# Altium schematic symbol library SCH - MCU - STM32 - ST MICROELECTRONICS STM32H742B(G-I)TX LQFP208.SchLib: 1 symbol
Pins are listed as number, name and electrical type; pins without a type are passive.

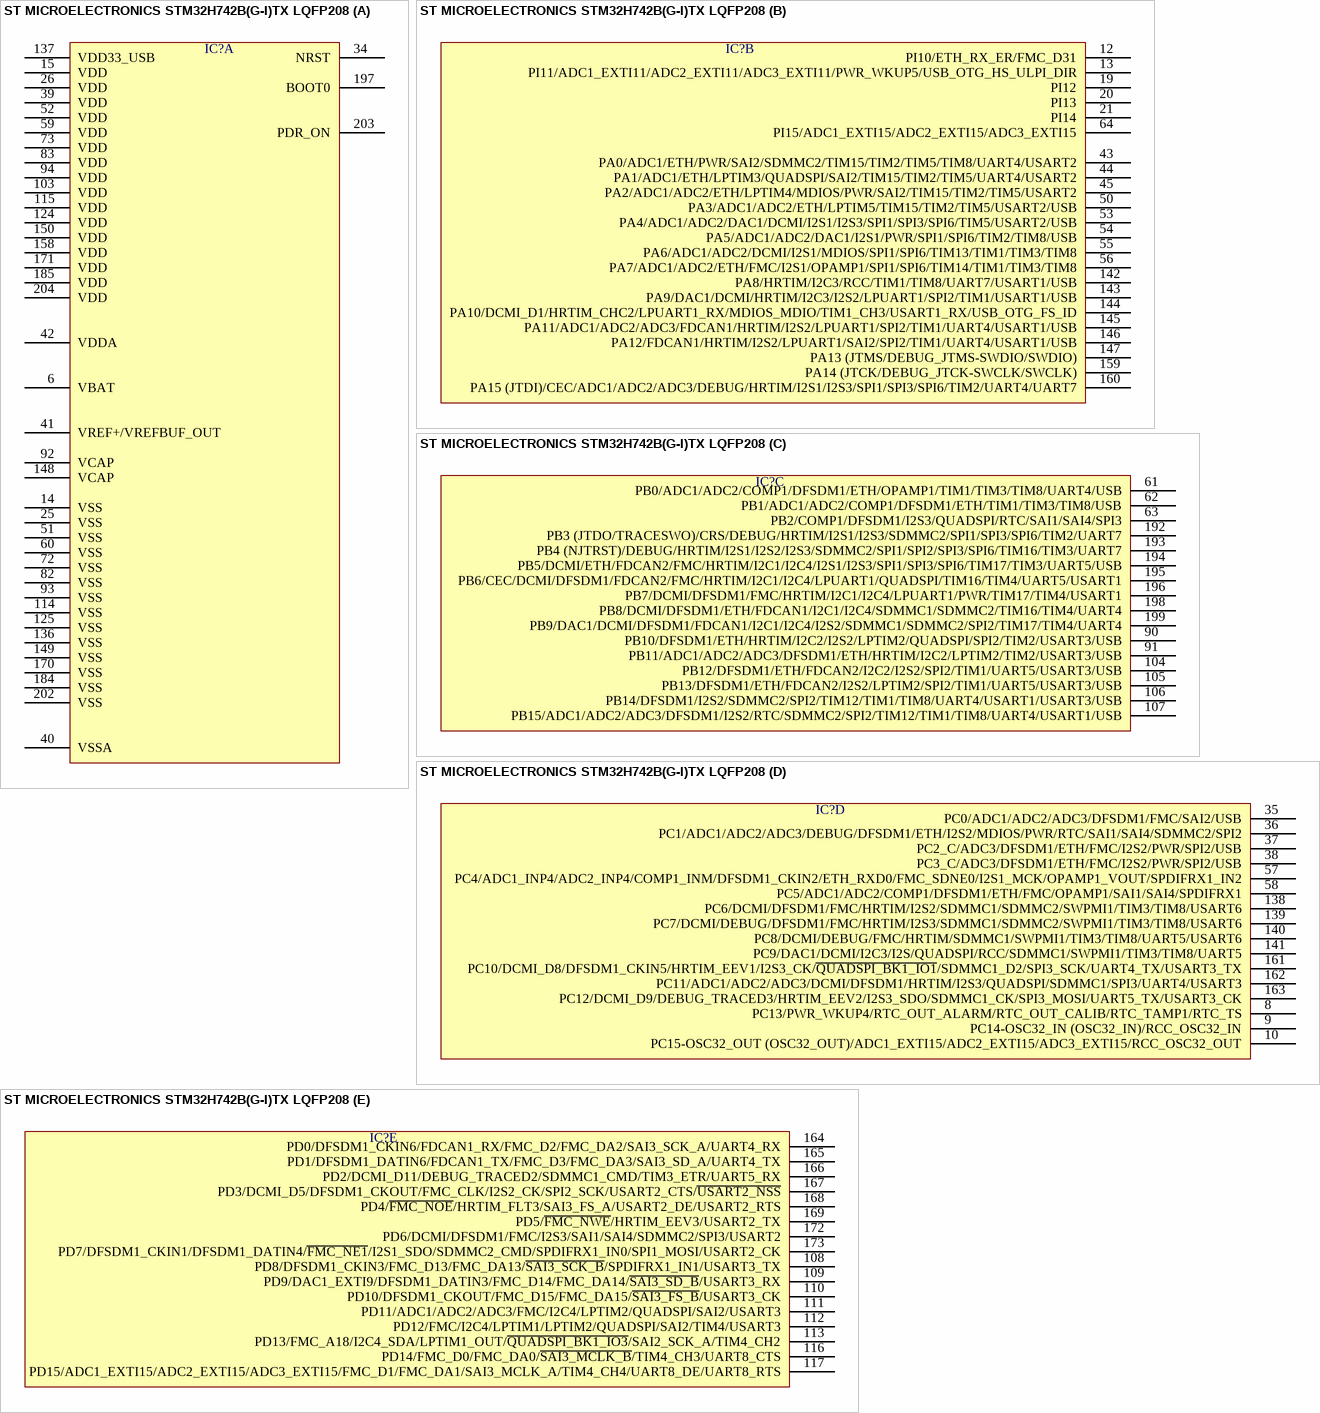
[diagram p0: symbol ST MICROELECTRONICS STM32H742B(G-I)TX LQFP208]

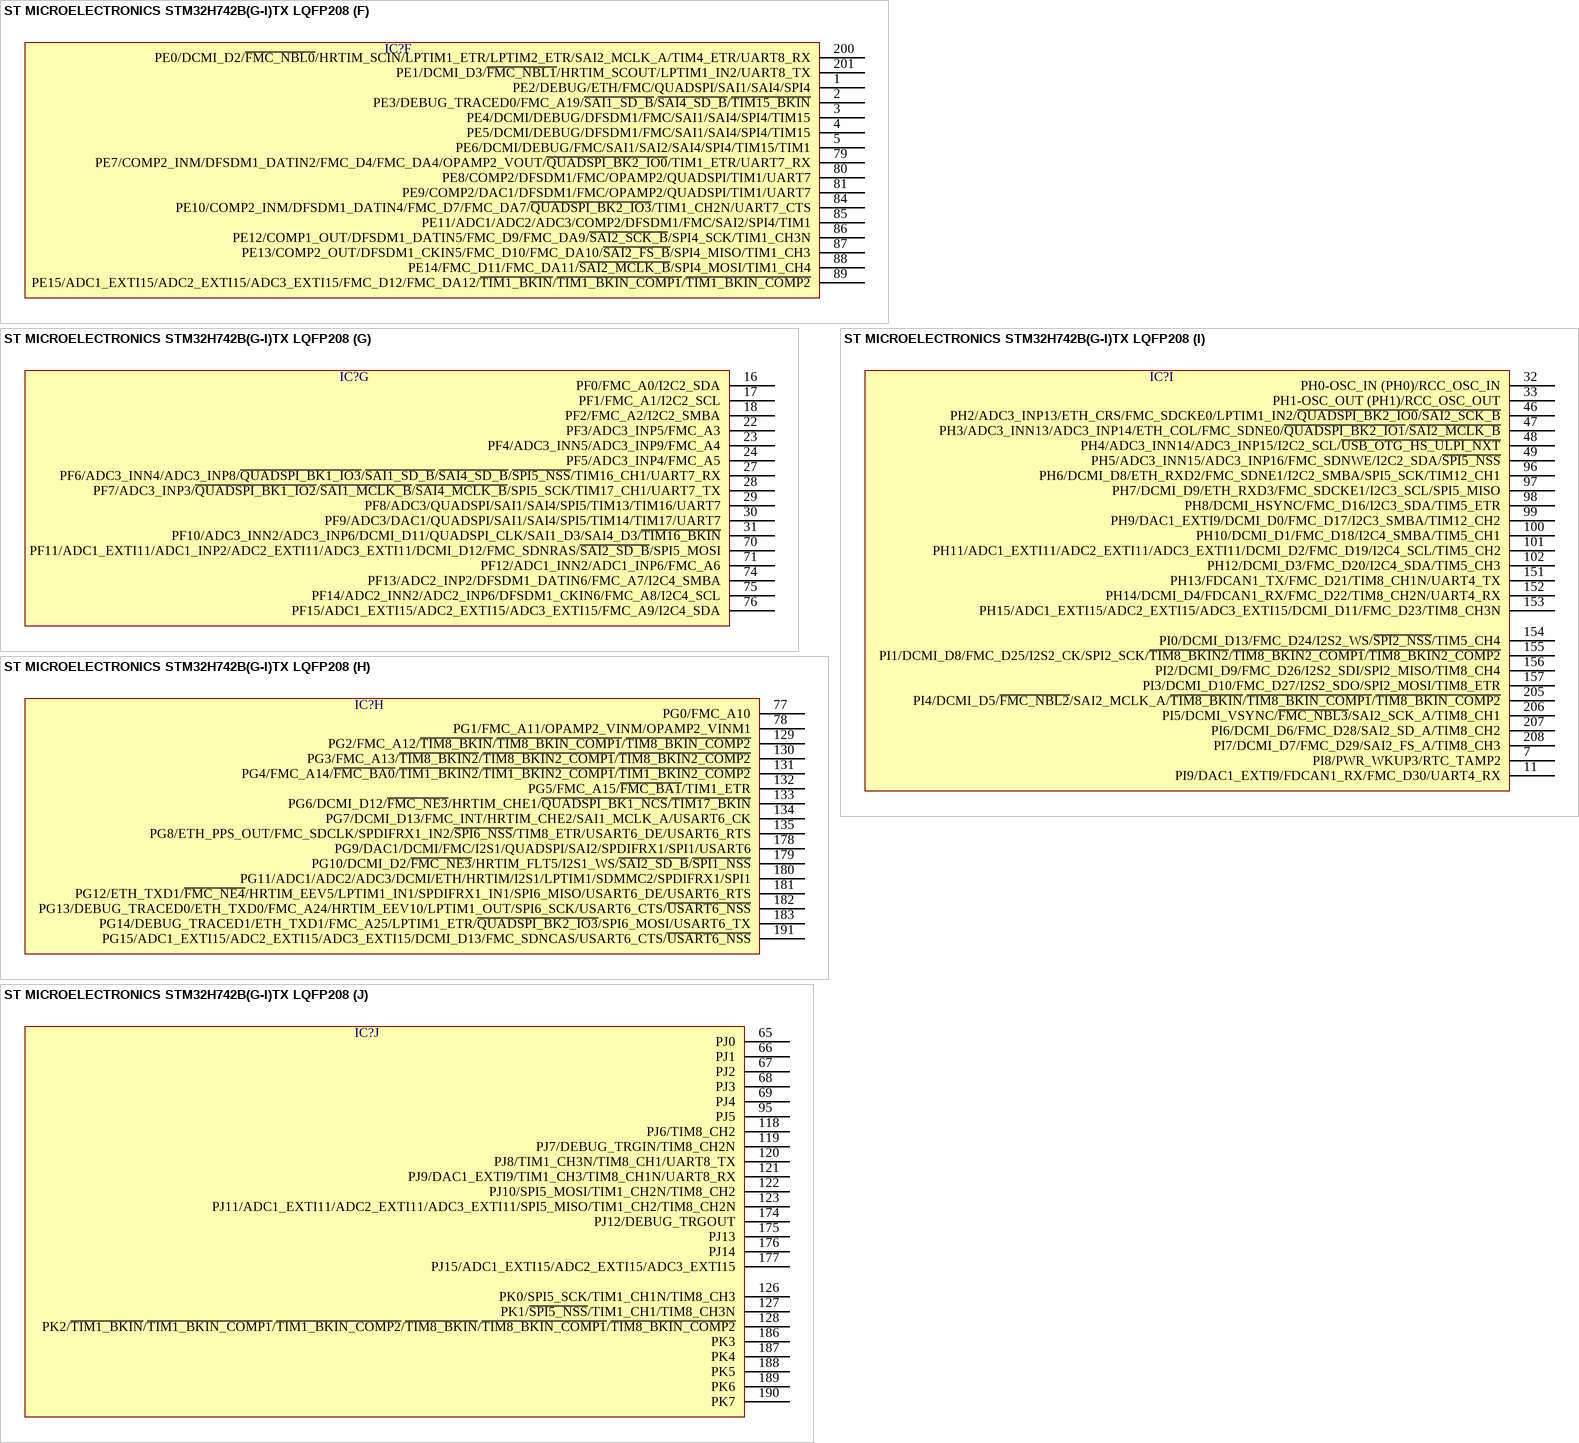
[diagram p1: symbol ST MICROELECTRONICS STM32H742B(G-I)TX LQFP208]

## ST MICROELECTRONICS STM32H742B(G-I)TX LQFP208
designator IC?  (value not drawn)
part A pins: 6 VBAT, 14 VSS, 15 VDD, 25 VSS, 26 VDD, 34 NRST, 39 VDD, 40 VSSA, 41 VREF+/VREFBUF_OUT, 42 VDDA, 51 VSS, 52 VDD, 59 VDD, 60 VSS, 72 VSS, 73 VDD, 82 VSS, 83 VDD, 92 VCAP, 93 VSS, 94 VDD, 103 VDD, 114 VSS, 115 VDD, 124 VDD, 125 VSS, 136 VSS, 137 VDD33_USB, 148 VCAP, 149 VSS, 150 VDD, 158 VDD, 170 VSS, 171 VDD, 184 VSS, 185 VDD, 197 BOOT0, 202 VSS, 203 PDR_ON, 204 VDD
part B pins: 12 PI10/ETH_RX_ER/FMC_D31, 13 PI11/ADC1_EXTI11/ADC2_EXTI11/ADC3_EXTI11/PWR_WKUP5/USB_OTG_HS_ULPI_DIR, 19 PI12, 20 PI13, 21 PI14, 43 PA0/ADC1/ETH/PWR/SAI2/SDMMC2/TIM15/TIM2/TIM5/TIM8/UART4/USART2, 44 PA1/ADC1/ETH/LPTIM3/QUADSPI/SAI2/TIM15/TIM2/TIM5/UART4/USART2, 45 PA2/ADC1/ADC2/ETH/LPTIM4/MDIOS/PWR/SAI2/TIM15/TIM2/TIM5/USART2, 50 PA3/ADC1/ADC2/ETH/LPTIM5/TIM15/TIM2/TIM5/USART2/USB, 53 PA4/ADC1/ADC2/DAC1/DCMI/I2S1/I2S3/SPI1/SPI3/SPI6/TIM5/USART2/USB, 54 PA5/ADC1/ADC2/DAC1/I2S1/PWR/SPI1/SPI6/TIM2/TIM8/USB, 55 PA6/ADC1/ADC2/DCMI/I2S1/MDIOS/SPI1/SPI6/TIM13/TIM1/TIM3/TIM8, 56 PA7/ADC1/ADC2/ETH/FMC/I2S1/OPAMP1/SPI1/SPI6/TIM14/TIM1/TIM3/TIM8, 64 PI15/ADC1_EXTI15/ADC2_EXTI15/ADC3_EXTI15, 142 PA8/HRTIM/I2C3/RCC/TIM1/TIM8/UART7/USART1/USB, 143 PA9/DAC1/DCMI/HRTIM/I2C3/I2S2/LPUART1/SPI2/TIM1/USART1/USB, 144 PA10/DCMI_D1/HRTIM_CHC2/LPUART1_RX/MDIOS_MDIO/TIM1_CH3/USART1_RX/USB_OTG_FS_ID, 145 PA11/ADC1/ADC2/ADC3/FDCAN1/HRTIM/I2S2/LPUART1/SPI2/TIM1/UART4/USART1/USB, 146 PA12/FDCAN1/HRTIM/I2S2/LPUART1/SAI2/SPI2/TIM1/UART4/USART1/USB, 147 PA13 (JTMS/DEBUG_JTMS-SWDIO/SWDIO), 159 PA14 (JTCK/DEBUG_JTCK-SWCLK/SWCLK), 160 PA15 (JTDI)/CEC/ADC1/ADC2/ADC3/DEBUG/HRTIM/I2S1/I2S3/SPI1/SPI3/SPI6/TIM2/UART4/UART7
part C pins: 61 PB0/ADC1/ADC2/COMP1/DFSDM1/ETH/OPAMP1/TIM1/TIM3/TIM8/UART4/USB, 62 PB1/ADC1/ADC2/COMP1/DFSDM1/ETH/TIM1/TIM3/TIM8/USB, 63 PB2/COMP1/DFSDM1/I2S3/QUADSPI/RTC/SAI1/SAI4/SPI3, 90 PB10/DFSDM1/ETH/HRTIM/I2C2/I2S2/LPTIM2/QUADSPI/SPI2/TIM2/USART3/USB, 91 PB11/ADC1/ADC2/ADC3/DFSDM1/ETH/HRTIM/I2C2/LPTIM2/TIM2/USART3/USB, 104 PB12/DFSDM1/ETH/FDCAN2/I2C2/I2S2/SPI2/TIM1/UART5/USART3/USB, 105 PB13/DFSDM1/ETH/FDCAN2/I2S2/LPTIM2/SPI2/TIM1/UART5/USART3/USB, 106 PB14/DFSDM1/I2S2/SDMMC2/SPI2/TIM12/TIM1/TIM8/UART4/USART1/USART3/USB, 107 PB15/ADC1/ADC2/ADC3/DFSDM1/I2S2/RTC/SDMMC2/SPI2/TIM12/TIM1/TIM8/UART4/USART1/USB, 192 PB3 (JTDO/TRACESWO)/CRS/DEBUG/HRTIM/I2S1/I2S3/SDMMC2/SPI1/SPI3/SPI6/TIM2/UART7, 193 PB4 (NJTRST)/DEBUG/HRTIM/I2S1/I2S2/I2S3/SDMMC2/SPI1/SPI2/SPI3/SPI6/TIM16/TIM3/UART7, 194 PB5/DCMI/ETH/FDCAN2/FMC/HRTIM/I2C1/I2C4/I2S1/I2S3/SPI1/SPI3/SPI6/TIM17/TIM3/UART5/USB, 195 PB6/CEC/DCMI/DFSDM1/FDCAN2/FMC/HRTIM/I2C1/I2C4/LPUART1/QUADSPI/TIM16/TIM4/UART5/USART1, 196 PB7/DCMI/DFSDM1/FMC/HRTIM/I2C1/I2C4/LPUART1/PWR/TIM17/TIM4/USART1, 198 PB8/DCMI/DFSDM1/ETH/FDCAN1/I2C1/I2C4/SDMMC1/SDMMC2/TIM16/TIM4/UART4, 199 PB9/DAC1/DCMI/DFSDM1/FDCAN1/I2C1/I2C4/I2S2/SDMMC1/SDMMC2/SPI2/TIM17/TIM4/UART4
part D pins: 8 PC13/PWR_WKUP4/RTC_OUT_ALARM/RTC_OUT_CALIB/RTC_TAMP1/RTC_TS, 9 PC14-OSC32_IN (OSC32_IN)/RCC_OSC32_IN, 10 PC15-OSC32_OUT (OSC32_OUT)/ADC1_EXTI15/ADC2_EXTI15/ADC3_EXTI15/RCC_OSC32_OUT, 35 PC0/ADC1/ADC2/ADC3/DFSDM1/FMC/SAI2/USB, 36 PC1/ADC1/ADC2/ADC3/DEBUG/DFSDM1/ETH/I2S2/MDIOS/PWR/RTC/SAI1/SAI4/SDMMC2/SPI2, 37 PC2_C/ADC3/DFSDM1/ETH/FMC/I2S2/PWR/SPI2/USB, 38 PC3_C/ADC3/DFSDM1/ETH/FMC/I2S2/PWR/SPI2/USB, 57 PC4/ADC1_INP4/ADC2_INP4/COMP1_INM/DFSDM1_CKIN2/ETH_RXD0/FMC_SDNE0/I2S1_MCK/OPAMP1_VOUT/SPDIFRX1_IN2, 58 PC5/ADC1/ADC2/COMP1/DFSDM1/ETH/FMC/OPAMP1/SAI1/SAI4/SPDIFRX1, 138 PC6/DCMI/DFSDM1/FMC/HRTIM/I2S2/SDMMC1/SDMMC2/SWPMI1/TIM3/TIM8/USART6, 139 PC7/DCMI/DEBUG/DFSDM1/FMC/HRTIM/I2S3/SDMMC1/SDMMC2/SWPMI1/TIM3/TIM8/USART6, 140 PC8/DCMI/DEBUG/FMC/HRTIM/SDMMC1/SWPMI1/TIM3/TIM8/UART5/USART6, 141 PC9/DAC1/DCMI/I2C3/I2S/QUADSPI/RCC/SDMMC1/SWPMI1/TIM3/TIM8/UART5, 161 PC10/DCMI_D8/DFSDM1_CKIN5/HRTIM_EEV1/I2S3_CK/~{QUADSPI_BK1_IO1}/SDMMC1_D2/SPI3_SCK/UART4_TX/USART3_TX, 162 PC11/ADC1/ADC2/ADC3/DCMI/DFSDM1/HRTIM/I2S3/QUADSPI/SDMMC1/SPI3/UART4/USART3, 163 PC12/DCMI_D9/DEBUG_TRACED3/HRTIM_EEV2/I2S3_SDO/SDMMC1_CK/SPI3_MOSI/UART5_TX/USART3_CK
part E pins: 108 PD8/DFSDM1_CKIN3/FMC_D13/FMC_DA13/~{SAI3_SCK_B}/SPDIFRX1_IN1/USART3_TX, 109 PD9/DAC1_EXTI9/DFSDM1_DATIN3/FMC_D14/FMC_DA14/~{SAI3_SD_B}/USART3_RX, 110 PD10/DFSDM1_CKOUT/FMC_D15/FMC_DA15/~{SAI3_FS_B}/USART3_CK, 111 PD11/ADC1/ADC2/ADC3/FMC/I2C4/LPTIM2/QUADSPI/SAI2/USART3, 112 PD12/FMC/I2C4/LPTIM1/LPTIM2/QUADSPI/SAI2/TIM4/USART3, 113 PD13/FMC_A18/I2C4_SDA/LPTIM1_OUT/~{QUADSPI_BK1_IO3}/SAI2_SCK_A/TIM4_CH2, 116 PD14/FMC_D0/FMC_DA0/~{SAI3_MCLK_B}/TIM4_CH3/UART8_CTS, 117 PD15/ADC1_EXTI15/ADC2_EXTI15/ADC3_EXTI15/FMC_D1/FMC_DA1/SAI3_MCLK_A/TIM4_CH4/UART8_DE/UART8_RTS, 164 PD0/DFSDM1_CKIN6/FDCAN1_RX/FMC_D2/FMC_DA2/SAI3_SCK_A/UART4_RX, 165 PD1/DFSDM1_DATIN6/FDCAN1_TX/FMC_D3/FMC_DA3/SAI3_SD_A/UART4_TX, 166 PD2/DCMI_D11/DEBUG_TRACED2/SDMMC1_CMD/TIM3_ETR/UART5_RX, 167 PD3/DCMI_D5/DFSDM1_CKOUT/FMC_CLK/I2S2_CK/SPI2_SCK/USART2_CTS/~{USART2_NSS}, 168 PD4/~{FMC_NOE}/HRTIM_FLT3/SAI3_FS_A/USART2_DE/USART2_RTS, 169 PD5/~{FMC_NWE}/HRTIM_EEV3/USART2_TX, 172 PD6/DCMI/DFSDM1/FMC/I2S3/SAI1/SAI4/SDMMC2/SPI3/USART2, 173 PD7/DFSDM1_CKIN1/DFSDM1_DATIN4/~{FMC_NE1}/I2S1_SDO/SDMMC2_CMD/SPDIFRX1_IN0/SPI1_MOSI/USART2_CK
part F pins: 1 PE2/DEBUG/ETH/FMC/QUADSPI/SAI1/SAI4/SPI4, 2 PE3/DEBUG_TRACED0/FMC_A19/~{SAI1_SD_B}/~{SAI4_SD_B}/~{TIM15_BKIN}, 3 PE4/DCMI/DEBUG/DFSDM1/FMC/SAI1/SAI4/SPI4/TIM15, 4 PE5/DCMI/DEBUG/DFSDM1/FMC/SAI1/SAI4/SPI4/TIM15, 5 PE6/DCMI/DEBUG/FMC/SAI1/SAI2/SAI4/SPI4/TIM15/TIM1, 79 PE7/COMP2_INM/DFSDM1_DATIN2/FMC_D4/FMC_DA4/OPAMP2_VOUT/~{QUADSPI_BK2_IO0}/TIM1_ETR/UART7_RX, 80 PE8/COMP2/DFSDM1/FMC/OPAMP2/QUADSPI/TIM1/UART7, 81 PE9/COMP2/DAC1/DFSDM1/FMC/OPAMP2/QUADSPI/TIM1/UART7, 84 PE10/COMP2_INM/DFSDM1_DATIN4/FMC_D7/FMC_DA7/~{QUADSPI_BK2_IO3}/TIM1_CH2N/UART7_CTS, 85 PE11/ADC1/ADC2/ADC3/COMP2/DFSDM1/FMC/SAI2/SPI4/TIM1, 86 PE12/COMP1_OUT/DFSDM1_DATIN5/FMC_D9/FMC_DA9/~{SAI2_SCK_B}/SPI4_SCK/TIM1_CH3N, 87 PE13/COMP2_OUT/DFSDM1_CKIN5/FMC_D10/FMC_DA10/~{SAI2_FS_B}/SPI4_MISO/TIM1_CH3, 88 PE14/FMC_D11/FMC_DA11/~{SAI2_MCLK_B}/SPI4_MOSI/TIM1_CH4, 89 PE15/ADC1_EXTI15/ADC2_EXTI15/ADC3_EXTI15/FMC_D12/FMC_DA12/~{TIM1_BKIN}/~{TIM1_BKIN_COMP1}/~{TIM1_BKIN_COMP2}, 200 PE0/DCMI_D2/~{FMC_NBL0}/HRTIM_SCIN/LPTIM1_ETR/LPTIM2_ETR/SAI2_MCLK_A/TIM4_ETR/UART8_RX, 201 PE1/DCMI_D3/~{FMC_NBL1}/HRTIM_SCOUT/LPTIM1_IN2/UART8_TX
part G pins: 16 PF0/FMC_A0/I2C2_SDA, 17 PF1/FMC_A1/I2C2_SCL, 18 PF2/FMC_A2/I2C2_SMBA, 22 PF3/ADC3_INP5/FMC_A3, 23 PF4/ADC3_INN5/ADC3_INP9/FMC_A4, 24 PF5/ADC3_INP4/FMC_A5, 27 PF6/ADC3_INN4/ADC3_INP8/~{QUADSPI_BK1_IO3}/~{SAI1_SD_B}/~{SAI4_SD_B}/~{SPI5_NSS}/TIM16_CH1/UART7_RX, 28 PF7/ADC3_INP3/~{QUADSPI_BK1_IO2}/~{SAI1_MCLK_B}/~{SAI4_MCLK_B}/SPI5_SCK/TIM17_CH1/UART7_TX, 29 PF8/ADC3/QUADSPI/SAI1/SAI4/SPI5/TIM13/TIM16/UART7, 30 PF9/ADC3/DAC1/QUADSPI/SAI1/SAI4/SPI5/TIM14/TIM17/UART7, 31 PF10/ADC3_INN2/ADC3_INP6/DCMI_D11/QUADSPI_CLK/SAI1_D3/SAI4_D3/~{TIM16_BKIN}, 70 PF11/ADC1_EXTI11/ADC1_INP2/ADC2_EXTI11/ADC3_EXTI11/DCMI_D12/FMC_SDNRAS/~{SAI2_SD_B}/SPI5_MOSI, 71 PF12/ADC1_INN2/ADC1_INP6/FMC_A6, 74 PF13/ADC2_INP2/DFSDM1_DATIN6/FMC_A7/I2C4_SMBA, 75 PF14/ADC2_INN2/ADC2_INP6/DFSDM1_CKIN6/FMC_A8/I2C4_SCL, 76 PF15/ADC1_EXTI15/ADC2_EXTI15/ADC3_EXTI15/FMC_A9/I2C4_SDA
part H pins: 77 PG0/FMC_A10, 78 PG1/FMC_A11/OPAMP2_VINM/OPAMP2_VINM1, 129 PG2/FMC_A12/~{TIM8_BKIN}/~{TIM8_BKIN_COMP1}/~{TIM8_BKIN_COMP2}, 130 PG3/FMC_A13/~{TIM8_BKIN2}/~{TIM8_BKIN2_COMP1}/~{TIM8_BKIN2_COMP2}, 131 PG4/FMC_A14/~{FMC_BA0}/~{TIM1_BKIN2}/~{TIM1_BKIN2_COMP1}/~{TIM1_BKIN2_COMP2}, 132 PG5/FMC_A15/~{FMC_BA1}/TIM1_ETR, 133 PG6/DCMI_D12/~{FMC_NE3}/HRTIM_CHE1/~{QUADSPI_BK1_NCS}/~{TIM17_BKIN}, 134 PG7/DCMI_D13/FMC_INT/HRTIM_CHE2/SAI1_MCLK_A/USART6_CK, 135 PG8/ETH_PPS_OUT/FMC_SDCLK/SPDIFRX1_IN2/~{SPI6_NSS}/TIM8_ETR/USART6_DE/USART6_RTS, 178 PG9/DAC1/DCMI/FMC/I2S1/QUADSPI/SAI2/SPDIFRX1/SPI1/USART6, 179 PG10/DCMI_D2/~{FMC_NE3}/HRTIM_FLT5/I2S1_WS/~{SAI2_SD_B}/~{SPI1_NSS}, 180 PG11/ADC1/ADC2/ADC3/DCMI/ETH/HRTIM/I2S1/LPTIM1/SDMMC2/SPDIFRX1/SPI1, 181 PG12/ETH_TXD1/~{FMC_NE4}/HRTIM_EEV5/LPTIM1_IN1/SPDIFRX1_IN1/SPI6_MISO/USART6_DE/USART6_RTS, 182 PG13/DEBUG_TRACED0/ETH_TXD0/FMC_A24/HRTIM_EEV10/LPTIM1_OUT/SPI6_SCK/USART6_CTS/~{USART6_NSS}, 183 PG14/DEBUG_TRACED1/ETH_TXD1/FMC_A25/LPTIM1_ETR/~{QUADSPI_BK2_IO3}/SPI6_MOSI/USART6_TX, 191 PG15/ADC1_EXTI15/ADC2_EXTI15/ADC3_EXTI15/DCMI_D13/FMC_SDNCAS/USART6_CTS/~{USART6_NSS}
part I pins: 7 PI8/PWR_WKUP3/RTC_TAMP2, 11 PI9/DAC1_EXTI9/FDCAN1_RX/FMC_D30/UART4_RX, 32 PH0-OSC_IN (PH0)/RCC_OSC_IN, 33 PH1-OSC_OUT (PH1)/RCC_OSC_OUT, 46 PH2/ADC3_INP13/ETH_CRS/FMC_SDCKE0/LPTIM1_IN2/~{QUADSPI_BK2_IO0}/~{SAI2_SCK_B}, 47 PH3/ADC3_INN13/ADC3_INP14/ETH_COL/FMC_SDNE0/~{QUADSPI_BK2_IO1}/~{SAI2_MCLK_B}, 48 PH4/ADC3_INN14/ADC3_INP15/I2C2_SCL/~{USB_OTG_HS_ULPI_NXT}, 49 PH5/ADC3_INN15/ADC3_INP16/FMC_SDNWE/I2C2_SDA/~{SPI5_NSS}, 96 PH6/DCMI_D8/ETH_RXD2/FMC_SDNE1/I2C2_SMBA/SPI5_SCK/TIM12_CH1, 97 PH7/DCMI_D9/ETH_RXD3/FMC_SDCKE1/I2C3_SCL/SPI5_MISO, 98 PH8/DCMI_HSYNC/FMC_D16/I2C3_SDA/TIM5_ETR, 99 PH9/DAC1_EXTI9/DCMI_D0/FMC_D17/I2C3_SMBA/TIM12_CH2, 100 PH10/DCMI_D1/FMC_D18/I2C4_SMBA/TIM5_CH1, 101 PH11/ADC1_EXTI11/ADC2_EXTI11/ADC3_EXTI11/DCMI_D2/FMC_D19/I2C4_SCL/TIM5_CH2, 102 PH12/DCMI_D3/FMC_D20/I2C4_SDA/TIM5_CH3, 151 PH13/FDCAN1_TX/FMC_D21/TIM8_CH1N/UART4_TX, 152 PH14/DCMI_D4/FDCAN1_RX/FMC_D22/TIM8_CH2N/UART4_RX, 153 PH15/ADC1_EXTI15/ADC2_EXTI15/ADC3_EXTI15/DCMI_D11/FMC_D23/TIM8_CH3N, 154 PI0/DCMI_D13/FMC_D24/I2S2_WS/~{SPI2_NSS}/TIM5_CH4, 155 PI1/DCMI_D8/FMC_D25/I2S2_CK/SPI2_SCK/~{TIM8_BKIN2}/~{TIM8_BKIN2_COMP1}/~{TIM8_BKIN2_COMP2}, 156 PI2/DCMI_D9/FMC_D26/I2S2_SDI/SPI2_MISO/TIM8_CH4, 157 PI3/DCMI_D10/FMC_D27/I2S2_SDO/SPI2_MOSI/TIM8_ETR, 205 PI4/DCMI_D5/~{FMC_NBL2}/SAI2_MCLK_A/~{TIM8_BKIN}/~{TIM8_BKIN_COMP1}/~{TIM8_BKIN_COMP2}, 206 PI5/DCMI_VSYNC/~{FMC_NBL3}/SAI2_SCK_A/TIM8_CH1, 207 PI6/DCMI_D6/FMC_D28/SAI2_SD_A/TIM8_CH2, 208 PI7/DCMI_D7/FMC_D29/SAI2_FS_A/TIM8_CH3
part J pins: 65 PJ0, 66 PJ1, 67 PJ2, 68 PJ3, 69 PJ4, 95 PJ5, 118 PJ6/TIM8_CH2, 119 PJ7/DEBUG_TRGIN/TIM8_CH2N, 120 PJ8/TIM1_CH3N/TIM8_CH1/UART8_TX, 121 PJ9/DAC1_EXTI9/TIM1_CH3/TIM8_CH1N/UART8_RX, 122 PJ10/SPI5_MOSI/TIM1_CH2N/TIM8_CH2, 123 PJ11/ADC1_EXTI11/ADC2_EXTI11/ADC3_EXTI11/SPI5_MISO/TIM1_CH2/TIM8_CH2N, 126 PK0/SPI5_SCK/TIM1_CH1N/TIM8_CH3, 127 PK1/~{SPI5_NSS}/TIM1_CH1/TIM8_CH3N, 128 PK2/~{TIM1_BKIN}/~{TIM1_BKIN_COMP1}/~{TIM1_BKIN_COMP2}/~{TIM8_BKIN}/~{TIM8_BKIN_COMP1}/~{TIM8_BKIN_COMP2}, 174 PJ12/DEBUG_TRGOUT, 175 PJ13, 176 PJ14, 177 PJ15/ADC1_EXTI15/ADC2_EXTI15/ADC3_EXTI15, 186 PK3, 187 PK4, 188 PK5, 189 PK6, 190 PK7